# Altium footprint library диоды.PcbLib: 45 footprints (part 3 of 3)
Each footprint in its own frame and in the unit in brackets; x right, y up, seen from the top. Pads: shape width x height; smd on the part's side, far side on the other; paste and mask are expansions set on the pad; w line width, h text height; cw(c..) or ccw(c..) is an arc to the next point about the centre after c.
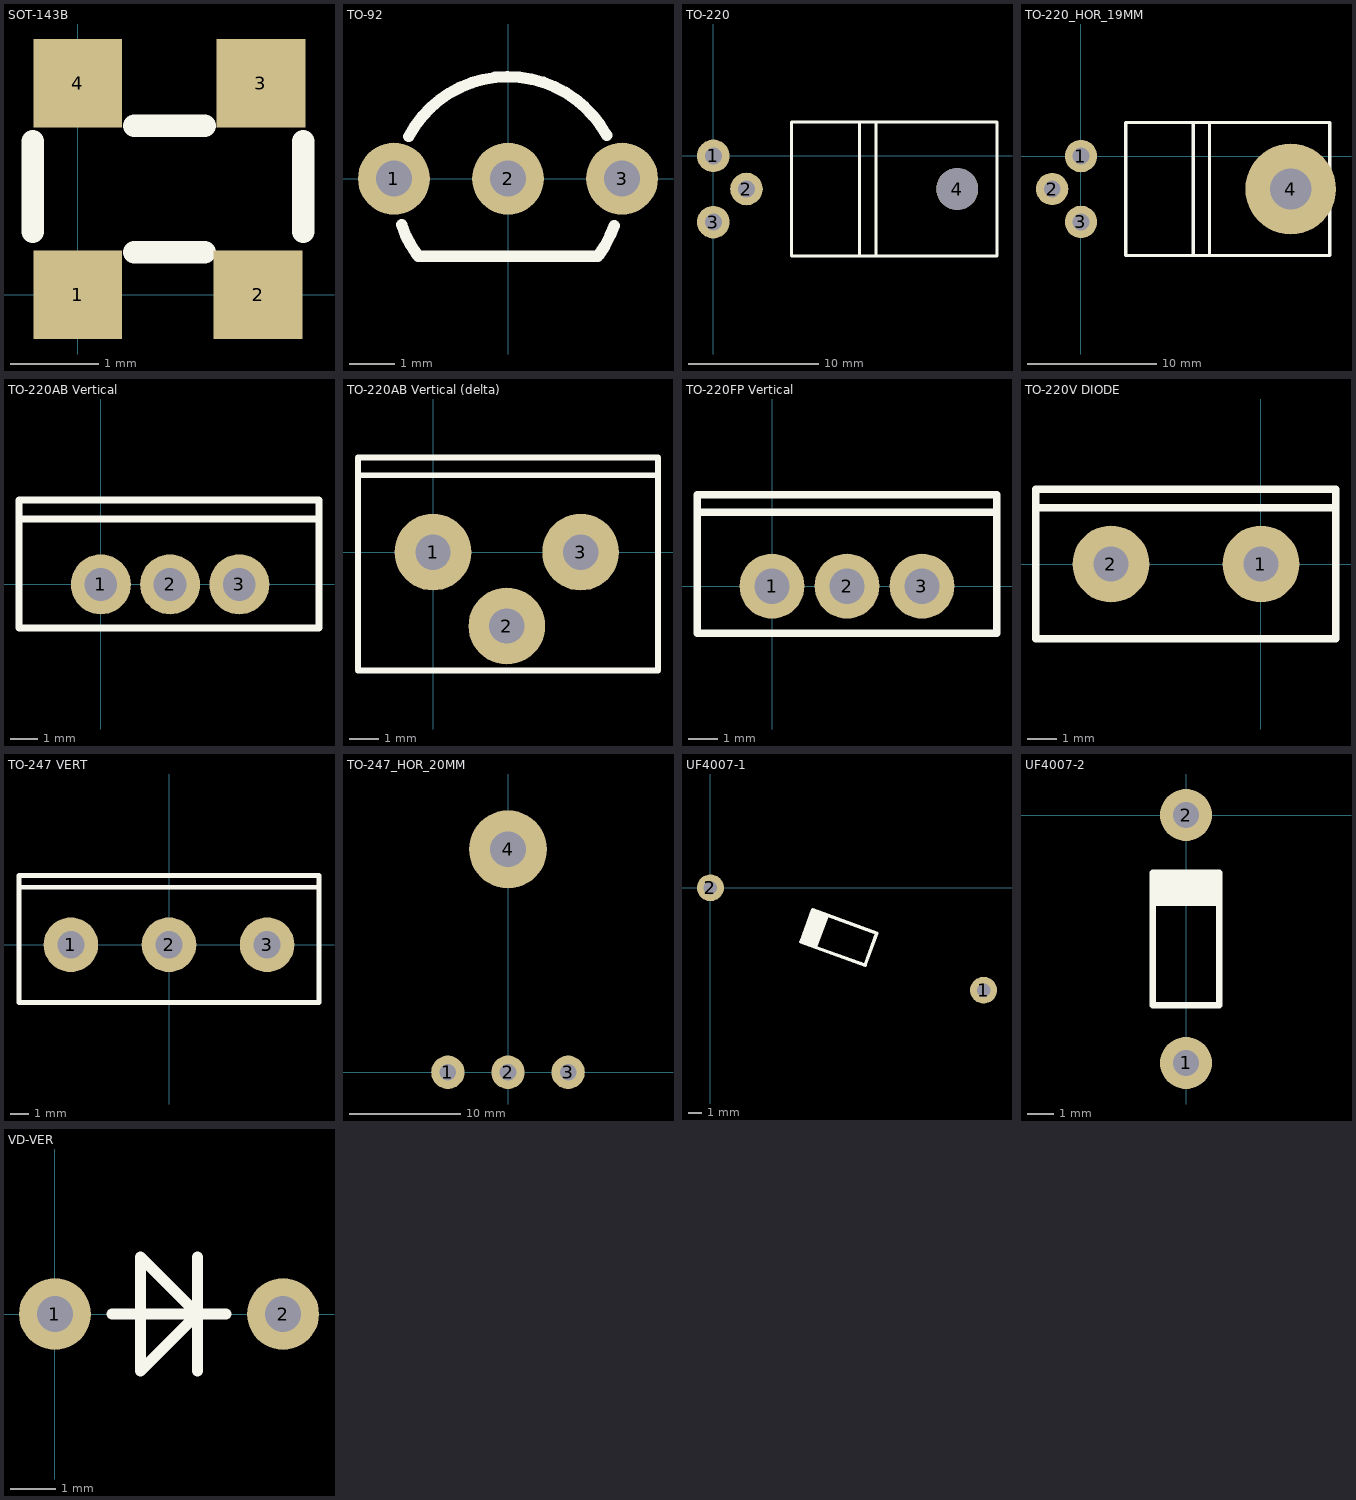
[diagram p2: the footprints below, top view; thin cyan lines are the x and y axes]

## SOT-143B [mm]
pads (4):
  rect 1x1 smd: 1(0,0) 2(2.032,0) 3(2.064,2.381) 4(0,2.381)
Top Overlay:
  lines w0.254: -0.508,0.711 -0.508,1.727 ; 0.635,0.476 1.429,0.476 ; 0.635,1.905 1.429,1.905 ; 2.54,0.711 2.54,1.727

## TO-92 [mm]
pads (3):
  round 1.6 hole 0.8: 1(-2.54,0) 2(0,0) 3(2.54,0)
Top Overlay:
  lines w0.254: -2.369,-1.027 ccw(c0,-0.23) -2.015,-1.71 ; -2.209,0.94 cw(c0,-0.23) 2.197,0.963 ; -2,-1.73 2,-1.73 ; 2.028,-1.692 ccw(c0,-0.23) 2.362,-1.048
3D body "ALSRobot-TO-92W.SLDPRT": height 9.7, standoff -1.6, extent -2.765,-1.55 2.765,2.55

## TO-220 [mm]
pads (4):
  round 2.5 hole 1.3: 1(0,0) 2(2.54,-2.54) 3(0,-5.08)
  round 3.2 hole 3.2: 4(18.694,-2.54)
Top Overlay:
  lines w0.254: 11.201,-7.671 11.201,2.591 ; 12.471,-7.671 12.471,2.591 ; 5.994,-7.671 21.742,-7.671 21.742,2.591 5.994,2.591 5.994,-7.671

## TO-220_HOR_19MM [mm]
pads (4):
  round 2.5 hole 1.3: 1(0,0) 2(-2.222,-2.54) 3(0,-5.08)
  round 7 hole 3.2: 4(16.192,-2.54)
Top Overlay:
  lines w0.254: 8.661,-7.671 8.661,2.591 ; 9.931,-7.671 9.931,2.591 ; 3.454,-7.671 19.202,-7.671 19.202,2.591 3.454,2.591 3.454,-7.671

## TO-220AB Vertical [mm]
pads (3):
  round 2.2 hole 1.2: 1(0,0) 2(2.54,0) 3(5.08,0)
Top Overlay:
  lines w0.254: -3,2.405 8,2.4 ; -3,-1.6 8,-1.6 8,3.1 -3,3.1 -3,-1.6
3D body "User Library-TO220AB.SLDPRT": height 2, standoff -27.33, extent -3.107,-1.5 8.106,3.19

## TO-220AB Vertical (delta) [mm]
pads (3):
  round 2.6 hole 1.2: 1(0,0) 2(2.5,-2.5) 3(5,0)
Top Overlay:
  lines w0.2: -2.54,2.605 7.62,2.605 ; -2.54,-4 7.62,-4 7.62,3.2 -2.54,3.2 -2.54,-4
3D body "User Library-TO220AB-1.SLDPRT": height 26.87, standoff -2, extent -2.77,-2.795 7.77,3.1

## TO-220FP Vertical [mm]
pads (3):
  round 2.2 hole 1.2: 1(0,0) 2(2.54,0) 3(5.08,0)
Top Overlay:
  lines w0.254: -2.54,2.505 7.62,2.505 ; -2.54,-1.6 7.62,-1.6 7.62,3.1 -2.54,3.1 -2.54,-1.6
3D body "User Library-Transistors TO-220FP.SLDPRT": height 1.45, standoff -28.15, extent -2.55,-1.483 7.63,3.017

## TO-220V DIODE [mm]
pads (2):
  round 2.6 hole 1.2: 1(0,0) 2(-5.08,0)
Top Overlay:
  lines w0.254: -7.62,1.905 2.54,1.905 ; -7.62,-2.54 2.54,-2.54 2.54,2.54 -7.62,2.54 -7.62,-2.54

## TO-247 VERT [mm]
pads (3):
  round 3 hole 1.5: 1(-5.397,0) 2(0,0) 3(5.397,0)
Top Overlay:
  lines w0.254: -8.255,3.175 8.255,3.175 ; -8.255,-3.175 -8.255,3.81 8.255,3.81 8.255,-3.175 -8.255,-3.175

## TO-247_HOR_20MM [mm]
pads (4):
  round 3 hole 1.5: 1(-5.4,0) 2(0,0) 3(5.4,0)
  round 7 hole 3.2: 4(0,20.002)
Bottom Overlay:
  circle w0.254: c0,20.025 r2
  lines w0.254: -8.255,17.485 ccw(c-8.255,20.025) -8.255,22.565 ; -6.35,5.102 -6.35,0.975 -4.445,0.975 -4.445,5.102 ; -5.7,1 -5.7,0.3 -5.1,0.3 -5.1,1 ; -1.587,5.102 -1.587,0.975 1.587,0.975 1.587,5.102 ; -0.3,1 -0.3,0.3 0.3,0.3 0.3,1 ; 4.445,5.102 4.445,0.975 6.35,0.975 6.35,5.102 ; 5.1,1 5.1,0.3 5.7,0.3 5.7,1 ; 8.255,17.485 cw(c8.255,20.025) 8.255,22.565 ; -8.255,5.102 8.255,5.102 8.255,25.422 -8.255,25.422 -8.255,5.102

## UF4007-1 [mm]
pads (2):
  round 2 hole 1: 1(20.32,-7.62) 2(0,0)
Top Overlay:
  region: 6.732,-4.029 7.925,-4.464 8.794,-2.077 7.601,-1.642
  lines w0.254: 6.732,-4.029 11.505,-5.767 12.374,-3.38 7.601,-1.642 6.732,-4.029

## UF4007-2 [mm]
pads (2):
  round 2 hole 1: 1(0,-9.525) 2(0,0)
Top Overlay:
  region: -1.27,-2.223 -1.27,-3.493 1.27,-3.492 1.27,-2.222
  lines w0.254: -1.27,-7.303 -1.27,-2.223 1.27,-2.222 1.27,-7.302 -1.27,-7.303

## VD-VER [mm]
pads (2):
  round 1.6 hole 0.8: 1(0,0) 2(5.08,0)
Top Overlay:
  lines w0.254: 1.27,0 3.81,0 ; 3.175,-1.27 3.175,1.27 ; 1.905,-1.27 3.175,0 1.905,1.27 1.905,-1.27